# Altium footprint library TrackCommanderCar_PCB.PcbLib: 41 footprints (part 1 of 3)
Each footprint in its own frame and in the unit in brackets; x right, y up, seen from the top. Pads: shape width x height; smd on the part's side, far side on the other; paste and mask are expansions set on the pad; w line width, h text height; cw(c..) or ccw(c..) is an arc to the next point about the centre after c.
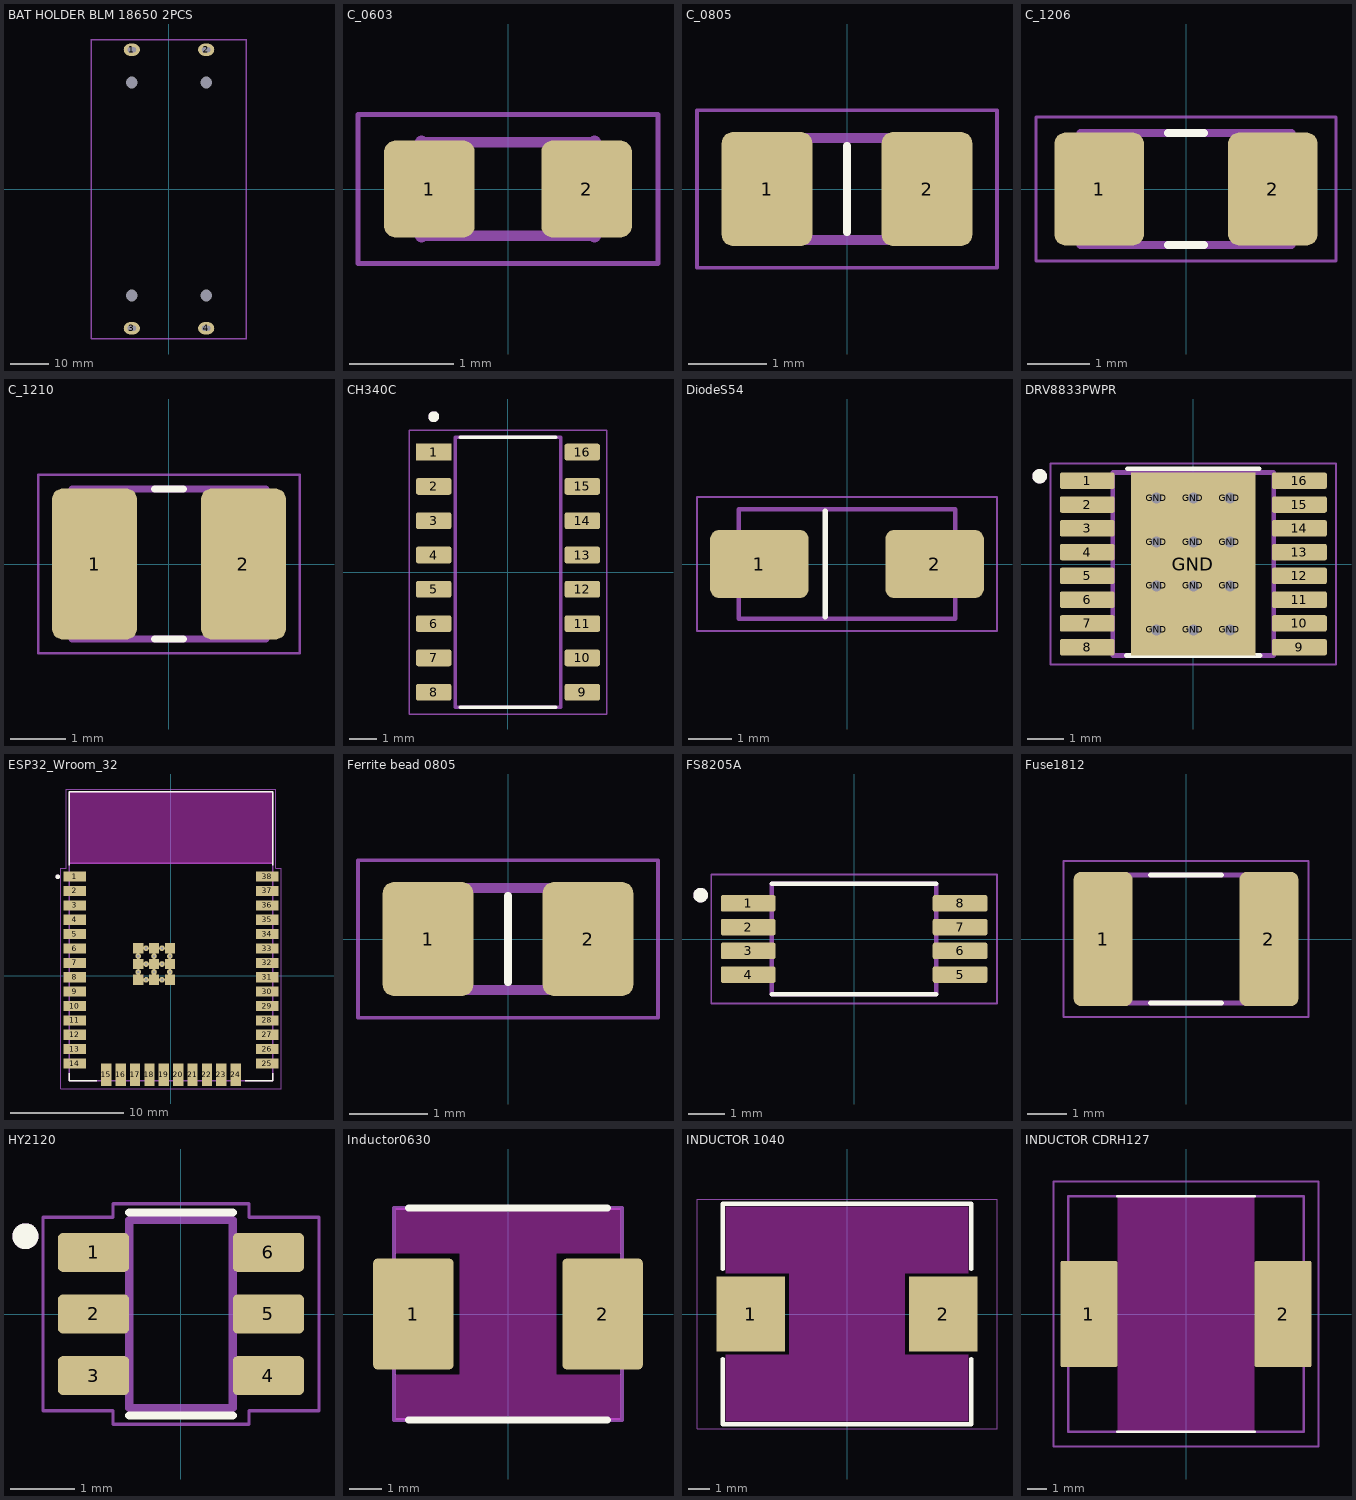
[diagram p0: the footprints below, top view; thin cyan lines are the x and y axes]

## BAT HOLDER BLM 18650 2PCS [mm]
pads (8):
  oval 4.2x3.2 hole 1.2 slot 2.2 at 0 deg mask+0.07: 1(-9.7,36.3) 2(9.7,36.3) 3(-9.7,-36.3) 4(9.7,-36.3)
  round 0.55 hole 3.1 unplated mask+0.07: ""(-9.7,-27.8) ""(-9.7,27.8) ""(9.7,-27.8) ""(9.7,27.8)
Mechanical 13:
  lines w0.2: -20.1,-38.9 -20.1,38.9 20.1,38.9 20.1,-38.9 -20.1,-38.9
Mechanical 15:
  lines w0.15: -20.3,-39.1 -20.3,39.1 20.3,39.1 20.3,-39.1 -20.3,-39.1
3D body "Generic Li Ion 18650 cell.step": height 22.99, standoff 5.01, extent 0.5,-32.7 18.5,32.3
3D body "Generic Li Ion 18650 cell.step": height 22.99, standoff 5.01, extent -18.6,-32.7 -0.6,32.3
3D body "KLS5-18650-002-D.STEP": height 21, standoff -3.99, extent -20.1,-38.9 20.1,38.9

## C_0603 [mm]
pads (2):
  rrect25% 0.87x0.93 smd mask+0.07: 1(-0.755,0) 2(0.755,0)
Mechanical 13:
  lines w0.1: -0.83,-0.45 0.83,-0.45 ; -0.83,0.45 0.83,0.45
  lines w0.127: -0.83,-0.45 -0.83,0.45 ; 0.83,-0.45 0.83,0.45
Mechanical 15:
  lines w0.05: -1.44,-0.715 -1.44,0.715 1.44,0.715 1.44,-0.715 -1.44,-0.715
3D body "step_temp.STEP": height 0.97, standoff 0, extent -0.8,-0.4 0.8,0.4

## C_0805 [mm]
pads (2):
  rrect25% 1.15x1.45 smd mask+0.07: 1(-1.016,0)
  rrect25% 1.15x1.45 smd paste-2539.97 mask+0.07: 2(1.016,0)
Top Overlay:
  lines w0.1: 0,-0.55 0,0.55
Top Paste:
  region: 0.441,-0.437 0.441,0.437 0.441,0.466 0.452,0.521 0.474,0.574 0.505,0.621 0.545,0.661 0.592,0.692 0.645,0.714 0.7,0.725 0.728,0.725 1.304,0.725 1.332,0.725 1.387,0.714 1.44,0.692 1.487,0.661 1.527,0.621 1.558,0.574 1.58,0.521 1.591,0.466 1.591,0.437 1.591,-0.437 1.591,-0.466 1.58,-0.521 1.558,-0.574 1.527,-0.621 1.487,-0.661 1.44,-0.692 1.387,-0.714 1.332,-0.725 1.304,-0.725 0.728,-0.725 0.7,-0.725 0.645,-0.714 0.592,-0.692 0.545,-0.661 0.505,-0.621 0.474,-0.574 0.452,-0.521 0.441,-0.466
Mechanical 13:
  region: 1,-0.65 0.5,-0.65 0.5,0.65 1,0.65
  region: -0.5,-0.65 -1,-0.65 -1,0.65 -0.5,0.65
  lines w0.127: -1,-0.65 -1,0.65 1,0.65 1,-0.65 -1,-0.65
Mechanical 15:
  lines w0.05: -1.905,-1 -1.905,1 1.905,1 1.905,-1 -1.905,-1
3D body "step_temp.STEP": height 1.52, standoff 0, extent -1.005,-0.625 1.005,0.625

## C_1206 [mm]
pads (2):
  rrect25% 1.44x1.82 smd mask+0.07: 1(-1.397,0) 2(1.397,0)
Top Overlay:
  lines w0.127: -0.29,-0.9 0.29,-0.9 ; -0.29,0.9 0.29,0.9
Mechanical 13:
  lines w0.127: -1.7,-0.9 1.7,-0.9 1.7,0.9 -1.7,0.9 -1.7,-0.9
Mechanical 15:
  lines w0.05: -2.413,-1.158 2.413,-1.158 2.413,1.158 -2.413,1.158 -2.413,-1.158
3D body "step_temp.STEP": height 1.9, standoff 0, extent -1.6,-0.8 1.6,0.8

## C_1210 [mm]
pads (2):
  rrect25% 1.53x2.72 smd mask+0.07: 1(-1.341,0) 2(1.341,0)
Top Overlay:
  lines w0.127: -0.26,-1.35 0.26,-1.35 ; -0.26,1.35 0.26,1.35
Mechanical 13:
  lines w0.127: -1.75,-1.35 -1.75,1.35 1.75,1.35 1.75,-1.35 -1.75,-1.35
Mechanical 15:
  lines w0.05: -2.355,-1.608 -2.355,1.608 2.355,1.608 2.355,-1.608 -2.355,-1.608
3D body "step_temp.STEP": height 2.65, standoff 0, extent -1.6,-1.25 1.6,1.25

## CH340C [mm]
pads (16):
  rect 1.31x0.62 smd: 1(-2.75,4.445)
  rrect25% 1.31x0.62 smd: 2(-2.75,3.175) 3(-2.75,1.905) 4(-2.75,0.635) 5(-2.75,-0.635) 6(-2.75,-1.905) 7(-2.75,-3.175) 8(-2.75,-4.445) 9(2.75,-4.445) 10(2.75,-3.175) 11(2.75,-1.905) 12(2.75,-0.635) 13(2.75,0.635) 14(2.75,1.905) 15(2.75,3.175) 16(2.75,4.445)
Top Overlay:
  circle w0.2: c-2.75,5.755 r0.1
  lines w0.127: -1.775,-5 1.775,-5 -1.775,-5 ; -1.775,5 1.775,5 -1.775,5
Mechanical 13:
  circle w0.2: c-2.75,5.755 r0.1
  lines w0.127: -1.95,-5 -1.95,5 1.95,5 1.95,-5 -1.95,-5
Mechanical 15:
  lines w0.05: -3.655,-5.25 3.655,-5.25 3.655,5.25 -3.655,5.25 -3.655,-5.25
3D body "step_temp.STEP": height 1.8, standoff 0, extent -3,-5 3,5

## DiodeS54 [mm]
pads (2):
  rrect25% 2.25x1.55 smd mask+0.07: 1(-2,0) 2(2,0)
Top Overlay:
  lines w0.127: -0.5,-1.2 -0.5,1.2
Mechanical 13:
  lines w0.1: -2.475,-1.25 -2.475,1.25 2.475,1.25 2.475,-1.25 -2.475,-1.25
Mechanical 15:
  lines w0.05: -3.425,-1.53 3.425,-1.53 3.425,1.53 -3.425,1.53 -3.425,-1.53
3D body "step_temp.STEP": height 2.2, standoff 0, extent -2.475,-1.25 2.475,1.25

## DRV8833PWPR [mm]
pads (29):
  rrect25% 1.5x0.45 smd mask+0.05: 1(-2.9,2.275) 2(-2.9,1.625) 3(-2.9,0.975) 4(-2.9,0.325) 5(-2.9,-0.325) 6(-2.9,-0.975) 7(-2.9,-1.625) 8(-2.9,-2.275) 9(2.9,-2.275) 10(2.9,-1.625) 11(2.9,-0.975) 12(2.9,-0.325) 13(2.9,0.325) 14(2.9,0.975) 15(2.9,1.625) 16(2.9,2.275)
  round 0.6 hole 0.3 mask+0: GND(-1,-1.8) GND(-1,-0.6) GND(-1,0.6) GND(-1,1.8) GND(0,-1.8) GND(0,-0.6) GND(0,0.6) GND(0,1.8) GND(1,-1.8) GND(1,-0.6) GND(1,0.6) GND(1,1.8)
  rect 3.4x5 smd paste-2539.97 mask+0: GND(0,0)
Top Overlay:
  circle w0.2: c-4.2,2.4 r0.1
  lines w0.127: -1.83,-2.5 1.83,-2.5 ; -1.8,2.6 1.8,2.6
Top Paste:
  region: 1.23,-1.155 -1.23,-1.155 -1.23,1.155 1.23,1.155
Top Solder:
  region: 1.23,-1.155 -1.23,-1.155 -1.23,1.155 1.23,1.155
Mechanical 13:
  circle w0.2: c-4.2,2.4 r0.1
  lines w0.127: -2.2,-2.5 -2.2,2.5 2.2,2.5 2.2,-2.5 -2.2,-2.5
Mechanical 15:
  lines w0.05: -3.9,-2.75 -3.9,2.75 3.9,2.75 3.9,-2.75 -3.9,-2.75
3D body "step_temp.STEP": height 1.2, standoff 0, extent -3.2,-2.5 3.2,2.5

## ESP32_Wroom_32 [mm]
pads (59):
  rect 2x0.9 smd mask+0.07: 1(-8.5,8.755) 2(-8.5,7.485) 3(-8.5,6.215) 4(-8.5,4.945) 5(-8.5,3.675) 6(-8.5,2.405) 7(-8.5,1.135) 8(-8.5,-0.135) 9(-8.5,-1.405) 10(-8.5,-2.675) 11(-8.5,-3.945) 12(-8.5,-5.215) 13(-8.5,-6.485) 14(-8.5,-7.755) 25(8.5,-7.755) 26(8.5,-6.485) 27(8.5,-5.215) 28(8.5,-3.945) 29(8.5,-2.675) 30(8.5,-1.405) 31(8.5,-0.135) 32(8.5,1.135) 33(8.5,2.405) 34(8.5,3.675) 35(8.5,4.945) 36(8.5,6.215) 37(8.5,7.485) 38(8.5,8.755)
  rect 0.9x2 smd mask+0.07: 15(-5.715,-8.755) 16(-4.445,-8.755) 17(-3.175,-8.755) 18(-1.905,-8.755) 19(-0.635,-8.755) 20(0.635,-8.755) 21(1.905,-8.755) 22(3.175,-8.755) 23(4.445,-8.755) 24(5.715,-8.755)
  rect 0.9x0.9 smd: GND(-2.897,-0.362) GND(-2.897,1.035) GND(-2.897,2.432) GND(-1.5,-0.362) GND(-1.5,1.035) GND(-1.5,2.432) GND(-0.097,-0.362) GND(-0.097,1.035) GND(-0.097,2.432)
  round 0.5 hole 0.2: GND(-2.897,0.332) GND(-2.897,1.732) GND(-2.197,-0.362) GND(-2.197,1.035) GND(-2.197,2.432) GND(-1.5,0.332) GND(-1.5,1.732) GND(-0.797,-0.362) GND(-0.797,1.035) GND(-0.797,2.432) GND(-0.097,0.332) GND(-0.097,1.732)
Top Overlay:
  circle w0.2: c-10,8.745 r0.1
  lines w0.127: -9,-8.605 -9,-9.255 -6.55,-9.255 ; -9,9.745 -9,16.245 9,16.245 9,9.745 ; 6.55,-9.255 9,-9.255 9,-8.605
Keep-Out Layer:
  region: 9,9.945 -9,9.945 -9,16.245 9,16.245
  region: 9,9.945 -9,9.945 -9,16.245 9,16.245
Mechanical 13:
  circle w0.2: c-10,8.745 r0.1
  lines w0.127: -9,9.945 9,9.945 ; -9,9.945 -9,16.245 9,16.245 9,9.945 ; -9,9.945 -9,-9.255 9,-9.255 9,9.945
Mechanical 15:
  lines w0.05: -9.75,-10.005 -9.75,9.495 -9.25,9.495 -9.25,16.495 9.25,16.495 9.25,9.495 9.75,9.495 9.75,-10.005 -9.75,-10.005
3D body "step_temp.STEP": height 3.2, standoff 0, extent -9,-9.255 9,16.245

## Ferrite bead 0805 [mm]
pads (2):
  rrect25% 1.15x1.45 smd mask+0.07: 1(-1.016,0)
  rrect25% 1.15x1.45 smd paste-2539.97 mask+0.07: 2(1.016,0)
Top Overlay:
  lines w0.1: 0,-0.55 0,0.55
Top Paste:
  region: 0.441,-0.437 0.441,0.438 0.441,0.466 0.452,0.521 0.474,0.574 0.505,0.621 0.545,0.661 0.592,0.692 0.645,0.714 0.7,0.725 0.728,0.725 1.304,0.725 1.332,0.725 1.387,0.714 1.44,0.692 1.487,0.661 1.527,0.621 1.558,0.574 1.58,0.521 1.591,0.466 1.591,0.438 1.591,-0.437 1.591,-0.466 1.58,-0.521 1.558,-0.574 1.527,-0.621 1.487,-0.661 1.44,-0.692 1.387,-0.714 1.332,-0.725 1.304,-0.725 0.728,-0.725 0.7,-0.725 0.645,-0.714 0.592,-0.692 0.545,-0.661 0.505,-0.621 0.474,-0.574 0.452,-0.521 0.441,-0.466
Mechanical 13:
  region: -0.5,-0.65 -1,-0.65 -1,0.65 -0.5,0.65
  region: 1,-0.65 0.5,-0.65 0.5,0.65 1,0.65
  lines w0.127: -1,-0.65 1,-0.65 1,0.65 -1,0.65 -1,-0.65
Mechanical 15:
  lines w0.05: -1.905,-1 1.905,-1 1.905,1 -1.905,1 -1.905,-1
3D body "FB.STEP": height 1.05, standoff 0, extent -1,-0.625 1,0.625

## FS8205A [mm]
pads (8):
  rrect25% 1.5x0.45 smd mask+0.05: 1(-2.9,0.975) 2(-2.9,0.325) 3(-2.9,-0.325) 4(-2.9,-0.975) 5(2.9,-0.975) 6(2.9,-0.325) 7(2.9,0.325) 8(2.9,0.975)
Top Overlay:
  circle w0.2: c-4.2,1.2 r0.1
  lines w0.127: -2.25,-1.515 2.25,-1.515 ; -2.25,1.515 2.25,1.515
Mechanical 13:
  circle w0.2: c-4.2,1.2 r0.1
  lines w0.127: -2.25,-1.515 -2.25,1.515 2.25,1.515 2.25,-1.515 -2.25,-1.515
Mechanical 15:
  lines w0.05: -3.91,-1.765 -3.91,1.765 3.91,1.765 3.91,-1.765 -3.91,-1.765
3D body "step_temp.STEP": height 1.2, standoff 0, extent -3.2,-1.465 3.2,1.465

## Fuse1812 [mm]
pads (2):
  rrect25% 1.5x3.4 smd mask+0.07: 1(-2.1,0) 2(2.1,0)
Top Overlay:
  lines w0.127: -0.9,-1.62 0.9,-1.62 ; -0.9,1.62 0.9,1.62
Mechanical 13:
  lines w0.127: -2.275,-1.62 2.275,-1.62 2.275,1.62 -2.275,1.62 -2.275,-1.62
Mechanical 15:
  lines w0.05: -3.1,-1.977 -3.1,1.977 3.1,1.977 3.1,-1.977 -3.1,-1.977
3D body "step_temp.STEP": height 0.85, standoff 0, extent -2.275,-1.62 2.275,1.62

## HY2120 [mm]
pads (6):
  rrect25% 1.1x0.6 smd mask+0.07: 1(-1.35,0.95) 2(-1.35,0) 3(-1.35,-0.95) 4(1.35,-0.95) 5(1.35,0) 6(1.35,0.95)
Top Overlay:
  circle w0.2: c-2.4,1.2 r0.1
  lines w0.127: -0.8,-1.565 0.8,-1.565 ; -0.8,1.565 0.8,1.565
Mechanical 13:
  circle w0.2: c-2.4,1.2 r0.1
  lines w0.127: -0.8,-1.45 -0.8,1.45 0.8,1.45 0.8,-1.45 -0.8,-1.45
Mechanical 15:
  lines w0.05: -2.13,-1.495 -2.13,1.495 -1.05,1.495 -1.05,1.7 1.05,1.7 1.05,1.495 2.13,1.495 2.13,-1.495 1.05,-1.495 1.05,-1.7 -1.05,-1.7 -1.05,-1.495 -2.13,-1.495
3D body "User Library-SOT-23-6-THIN.step": height 1.1, standoff 0, extent -1.5,-1.5 1.5,1.5

## Inductor0630 [mm]
pads (2):
  rrect10% 2.5x3.45 smd mask+0.07: 1(-2.95,0) 2(2.95,0)
Top Layer keep-out:
  region: -3.5,3.3 3.5,3.3 3.5,1.9 1.5,1.9 1.5,-1.9 3.5,-1.9 3.5,-3.3 -3.5,-3.3 -3.5,-1.9 -1.5,-1.9 -1.5,1.9 -3.5,1.9
Top Overlay:
  lines w0.225: -3.1,-3.3 3.1,-3.3 ; -3.1,3.3 3.1,3.3
Mechanical 13:
  lines w0.127: -3.55,-3.3 3.55,-3.3 3.55,3.3 -3.55,3.3 -3.55,-3.3
3D body "step_temp.STEP": height 3, standoff 0, extent -3.6,-3.325 3.6,3.325

## INDUCTOR 1040 [mm]
pads (2):
  rect 3.2x3.5 smd mask+0.09: 1(-4.5,0) 2(4.5,0)
Top Layer keep-out:
  region: -5.653,1.9 -5.653,5 5.65,5 5.65,1.9 2.7,1.9 2.7,-1.9 5.65,-1.9 5.65,-5 -5.653,-5 -5.653,-1.9 -2.7,-1.9 -2.7,1.9
Top Overlay:
  lines w0.2: -5.8,-2.1 -5.8,-5.15 5.8,-5.15 5.8,-2.1 ; -5.8,2.1 -5.8,5.15 5.8,5.15 5.8,2.1
Top Courtyard:
  lines w0.05: -7,-5.35 -7,5.35 7,5.35 7,-5.35 -7,-5.35
3D body "INDUCTOR1040.step": height 4.2, standoff 0, extent -5.65,-5 5.65,5

## INDUCTOR CDRH127 [mm]
pads (2):
  rrect5% 2.9x5.4 smd mask+0.07: 1(-4.95,0) 2(4.95,0)
Top Overlay:
  lines w0.127: -3.5,-6 3.5,-6 ; -3.5,6 3.5,6
Keep-Out Layer:
  rectangle: -3.5,-6 3.5,6
Mechanical 1:
  lines w0.127: -6,-6 6,-6 6,6 -6,6 -6,-6
Mechanical 15:
  lines w0.1: -6.75,-6.75 6.75,-6.75 6.75,6.75 -6.75,6.75 -6.75,-6.75
3D body "INDUCTOR_CDRH127_LDNP-220MC.STEP": height 8, standoff 0, extent -6,-6 6,6